# EAGLE library part BOB-FT232R-WIDE (library BOB-FT232R)
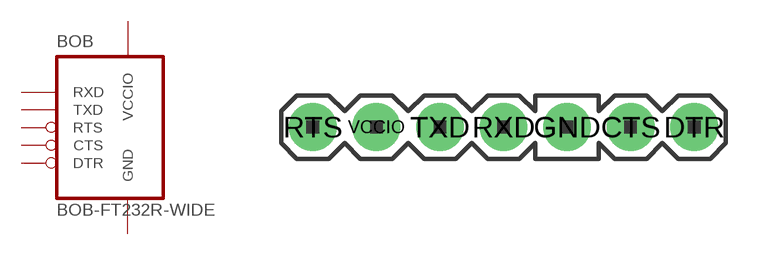
[diagram p3: symbol with the pads of BOB-FT232R-WIDE; footprint BOB-FT232R-WIDE]

Designator prefix BOB

## BOB-FT232R-WIDE  [BOB-FT232R-WIDE]
CTS  CTS
DTR  DTR
GND  GND  pwr
RTS  RTS
RXD  RXD  pas
TXD  TXD  pas
VCCIO  VCCIO  pwr

## Footprint BOB-FT232R-WIDE (pad centres in mm)
drill 1 pad 1.91 round: CTS 5.08,0; DTR 7.62,0; GND 2.54,0; RTS -7.62,0; RXD 0,0; TXD -2.54,0; VCCIO -5.08,0